# EAGLE library part PCIE_1X (library ds_con)
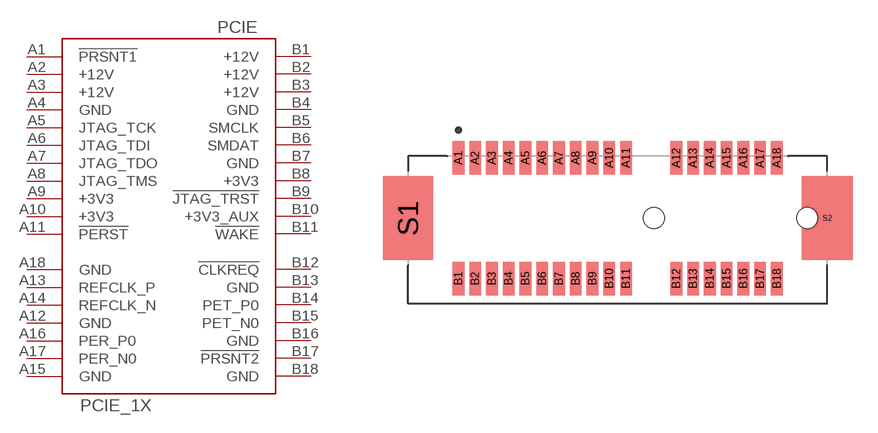
[diagram p29: symbol with the pads of PCIE_1X; footprint PCIE_1X]

Designator prefix PCIE

## PCIE_1X  [PCIE_1X]
A1  !PRSNT1
A2  +12V  pwr
A3  +12V  pwr
A4  GND  pwr
A5  JTAG_TCK
A6  JTAG_TDI
A7  JTAG_TDO
A8  JTAG_TMS
A9  +3V3  pwr
A10  +3V3  pwr
A11  !PERST
A12  GND  pwr
A13  REFCLK_P
A14  REFCLK_N
A15  GND  pwr
A16  PER_P0
A17  PER_N0
A18  GND  pwr
B1  +12V  pwr
B2  +12V  pwr
B3  +12V  pwr
B4  GND  pwr
B5  SMCLK
B6  SMDAT
B7  GND  pwr
B8  +3V3  pwr
B9  !JTAG_TRST
B10  +3V3_AUX  pwr
B11  !WAKE
B12  !CLKREQ
B13  GND  pwr
B14  PET_P0
B15  PET_N0
B16  GND  pwr
B17  !PRSNT2
B18  GND  pwr

## Footprint PCIE_1X (pad centres in mm)
smd 0.7 x 2: A1 -10.38,3.6; A2 -9.38,3.6; A3 -8.38,3.6; A4 -7.38,3.6; A5 -6.38,3.6; A6 -5.38,3.6; A7 -4.38,3.6; A8 -3.38,3.6; A9 -2.38,3.6; A10 -1.38,3.6; A11 -0.38,3.6; A12 2.62,3.6; A13 3.62,3.6; A14 4.62,3.6; A15 5.62,3.6; A16 6.62,3.6; A17 7.62,3.6; A18 8.62,3.6; B1 -10.38,-3.6; B2 -9.38,-3.6; B3 -8.38,-3.6; B4 -7.38,-3.6; B5 -6.38,-3.6; B6 -5.38,-3.6; B7 -4.38,-3.6; B8 -3.38,-3.6; B9 -2.38,-3.6; B10 -1.38,-3.6; B11 -0.38,-3.6; B12 2.62,-3.6; B13 3.62,-3.6; B14 4.62,-3.6; B15 5.62,-3.6; B16 6.62,-3.6; B17 7.62,-3.6; B18 8.62,-3.6
smd 3 x 5: S1 -13.38,0
smd 0.5 x 0.5: S2 11.62,0
hole 1.25 at 1.27,0
hole 1.25 at 10.42,0